# Altium footprint library BM02B-SRSS-TB_LF__SN_.PCBLIB: 1 footprints
Each footprint in its own frame and in the unit in brackets; x right, y up, seen from the top. Pads: shape width x height; smd on the part's side, far side on the other; paste and mask are expansions set on the pad; w line width, h text height; cw(c..) or ccw(c..) is an arc to the next point about the centre after c.
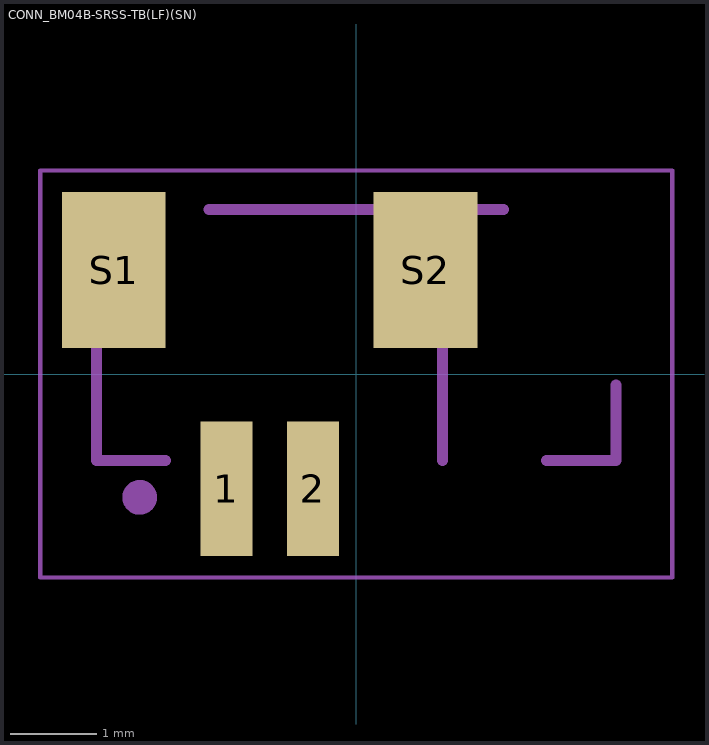
[diagram p0: the footprint, top view; thin cyan lines are the x and y axes]

## CONN_BM04B-SRSS-TB(LF)(SN) [mm]
pads (4):
  rect 0.6x1.55 smd: 1(-1.5,-1.325) 2(-0.5,-1.325)
  rect 1.2x1.8 smd: S1(-2.8,1.2) S2(0.8,1.2)
Assembly Top:
  circle w0.2: c-2.5,-1.425 r0.1
  lines w0.127: -3,-1 -3,1.9 ; 1,-1 1,1.9
Mechanical 22:
  circle w0.2: c-2.5,-1.425 r0.1
  lines w0.127: -3,-0.125 -3,-1 -2.2,-1 ; -1.7,1.9 1.7,1.9 ; 2.2,-1 3,-1 3,-0.125
Mechanical 30:
  lines w0.05: -3.65,-2.35 -3.65,2.35 3.65,2.35 3.65,-2.35 -3.65,-2.35